# EAGLE library part ADS122C04 (library pimoroni-ics)
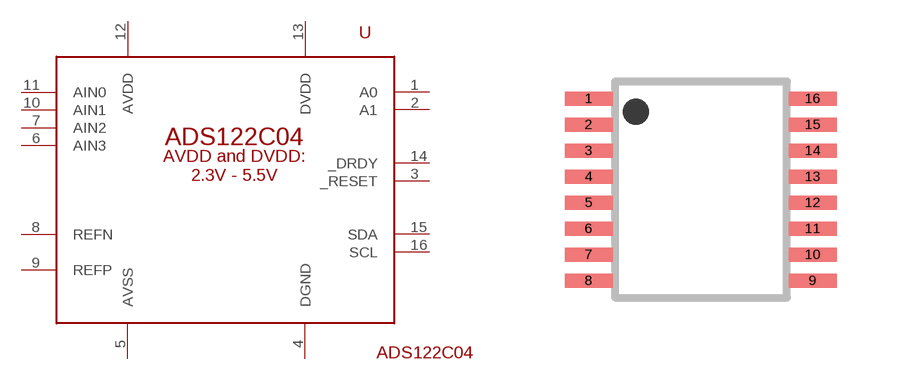
[diagram p129: symbol with the pads of TSSOP-16-TI; footprint TSSOP-16-TI]

Designator prefix -

## ADS122C04  [TSSOP-16-TI]
1  A0
2  A1
3  _RESET
4  DGND  sup
5  AVSS  sup
6  AIN3  pas
7  AIN2  pas
8  REFN  pas
9  REFP  pas
10  AIN1  pas
11  AIN0  pas
12  AVDD  sup
13  DVDD  sup
14  _DRDY
15  SDA
16  SCL

## Footprint TSSOP-16-TI (pad centres in mm)
PW (R-PDSO-G8) Source: http://focus.ti.com/lit/ds/symlink/ads1271.pdf
smd 1.2 x 0.35: 1 -2.808,2.275; 2 -2.808,1.625; 3 -2.808,0.975; 4 -2.808,0.325; 5 -2.808,-0.325; 6 -2.808,-0.975; 7 -2.808,-1.625; 8 -2.808,-2.275; 9 2.795,-2.275; 10 2.795,-1.625; 11 2.795,-0.975; 12 2.795,-0.325; 13 2.795,0.325; 14 2.795,0.975; 15 2.795,1.625; 16 2.795,2.275